# Altium footprint library PcbLib1.PcbLib: 18 footprints (part 1 of 2)
Each footprint in its own frame and in the unit in brackets; x right, y up, seen from the top. Pads: shape width x height; smd on the part's side, far side on the other; paste and mask are expansions set on the pad; w line width, h text height; cw(c..) or ccw(c..) is an arc to the next point about the centre after c.
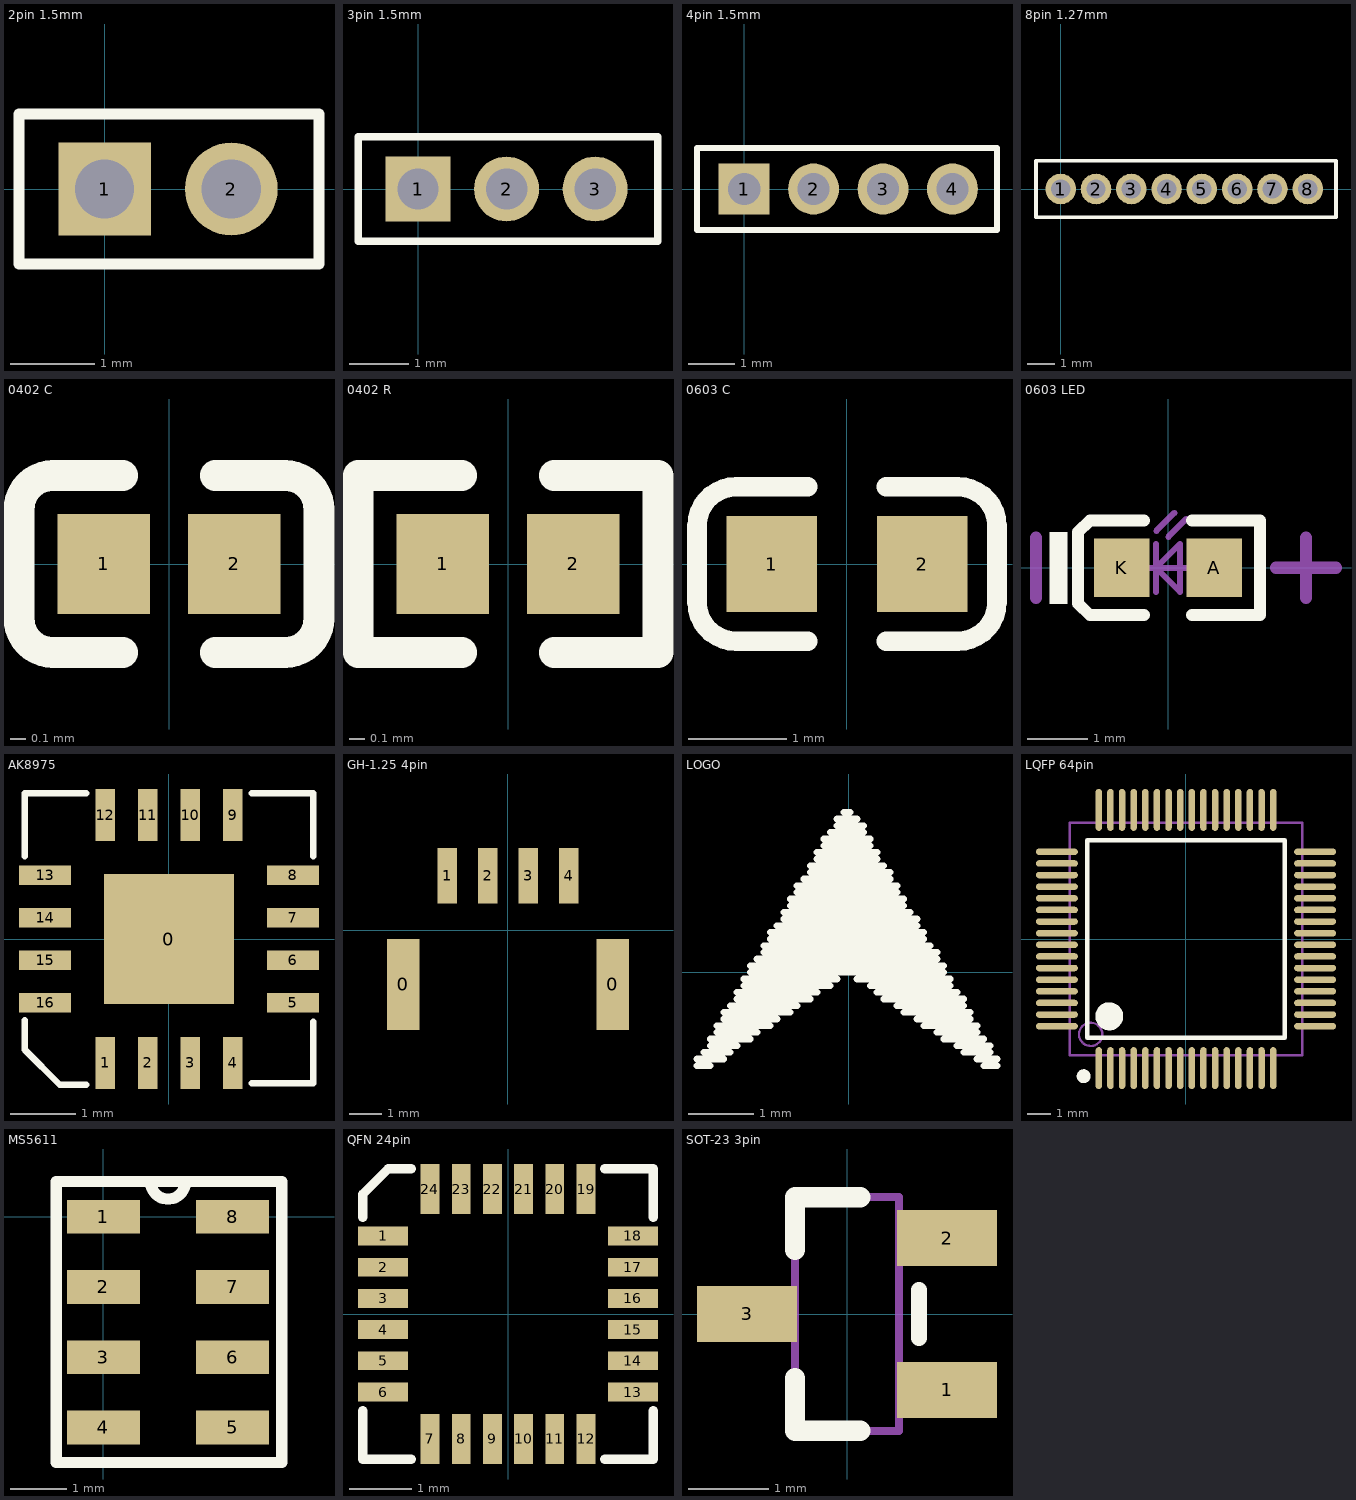
[diagram p0: the footprints below, top view; thin cyan lines are the x and y axes]

## 2pin 1.5mm [mm]
pads (2):
  rect 1.1x1.1 hole 0.7: 1(0,0)
  round 1.1 hole 0.7: 2(1.5,0)
Top Overlay:
  lines w0.127: -1.016,-0.889 -1.016,0.889 2.54,0.889 2.54,-0.889 -1.016,-0.889

## 3pin 1.5mm [mm]
pads (3):
  rect 1.1x1.1 hole 0.7: 1(0,0)
  round 1.1 hole 0.7: 2(1.5,0) 3(3,0)
Top Overlay:
  lines w0.127: -1.016,-0.889 4.064,-0.889 4.064,0.889 -1.016,0.889 -1.016,-0.889

## 4pin 1.5mm [mm]
pads (4):
  rect 1.1x1.1 hole 0.7: 1(0,0)
  round 1.1 hole 0.7: 2(1.5,0) 3(3,0) 4(4.5,0)
Top Overlay:
  lines w0.127: -1.016,-0.889 5.461,-0.889 5.461,0.889 -1.016,0.889 -1.016,-0.889

## 8pin 1.27mm [mm]
pads (8):
  round 1.1 hole 0.7: 1(0,0) 2(1.27,0) 3(2.54,0) 4(3.81,0) 5(5.08,0) 6(6.35,0) 7(7.62,0) 8(8.89,0)
Top Overlay:
  lines w0.127: -0.889,-1.016 -0.889,1.016 9.906,1.016 9.906,-1.016 -0.889,-1.016

## 0402 C [mm]
pads (2):
  rect 0.6x0.65 smd mask+0.051: 1(-0.425,0) 2(0.425,0)
Top Overlay:
  lines w0.2: -0.755,-0.575 cw(c-0.755,-0.355) -0.975,-0.355 -0.975,0.355 cw(c-0.755,0.355) -0.755,0.575 ; -0.75,-0.575 -0.3,-0.575 ; -0.75,0.575 -0.3,0.575 ; 0.3,-0.575 0.75,-0.575 ; 0.3,0.575 0.75,0.575 ; 0.755,-0.575 ccw(c0.755,-0.355) 0.975,-0.355 0.975,0.355 ccw(c0.755,0.355) 0.755,0.575
3D body "0402 SMD Capacitor.step": height 0.2, standoff 0, extent -0.483,-0.3 0.518,0.3

## 0402 R [mm]
pads (2):
  rect 0.6x0.65 smd mask+0.051: 1(-0.425,0) 2(0.425,0)
Top Overlay:
  lines w0.2: -0.3,-0.575 -0.975,-0.575 -0.975,0.575 -0.3,0.575 ; 0.3,-0.575 0.975,-0.575 0.975,0.575 0.3,0.575
3D body "User Library-RES_1005-0402.STEP": height 0.41, standoff 0, extent -0.575,-0.275 0.575,0.275

## 0603 C [mm]
pads (2):
  rect 0.93x0.98 smd: 1(-0.77,0) 2(0.77,0)
Top Overlay:
  lines w0.2: -0.4,-0.79 -1.135,-0.79 cw(c-1.135,-0.39) -1.535,-0.39 -1.535,0.39 cw(c-1.135,0.39) -1.135,0.79 -0.4,0.79 ; 0.4,-0.79 1.135,-0.79 ccw(c1.135,-0.39) 1.535,-0.39 1.535,0.39 ccw(c1.135,0.39) 1.135,0.79 0.4,0.79
3D body "User Library-0603 SMD Capacitor.STEP": height 0.3, standoff 0, extent -0.8,-0.4 0.8,0.4

## 0603 LED [mm]
pads (2):
  rect 0.93x0.98 smd: A(0.77,0) K(-0.77,0)
Top Overlay:
  rectangle: -1.975,-0.6 -1.675,0.6
  lines w0.2: -0.4,-0.79 -1.3,-0.79 -1.5,-0.597 -1.5,0.597 -1.3,0.79 -0.4,0.79 ; 0.4,-0.79 1.535,-0.79 1.535,0.79 0.4,0.79
Mechanical 13:
  lines w0.1: -0.4,0 0.4,0 ; -0.2,-0.4 -0.2,0.4 ; -0.195,0.617 0.105,0.917 ; 0.005,0.517 0.305,0.817 ; -0.2,0 0.2,0.4 0.2,-0.4 -0.2,0
Mechanical 15:
  lines w0.203: -2.2,-0.5 -2.2,0.5 ; 1.8,0 2.8,0 ; 2.3,-0.5 2.3,0.5
3D body "User Library-LED_0603_R.STEP": height 0.6, standoff 0, extent -0.8,-0.4 0.8,0.4

## 0603 R [mm]

## AK8975 [mm]
pads (17):
  rect 2x2 smd: 0(0,0)
  rect 0.3x0.8 smd: 1(-0.975,-1.9) 2(-0.325,-1.9) 3(0.325,-1.9) 4(0.975,-1.9) 9(0.975,1.9) 10(0.325,1.9) 11(-0.325,1.9) 12(-0.975,1.9)
  rect 0.8x0.3 smd: 5(1.9,-0.975) 6(1.9,-0.325) 7(1.9,0.325) 8(1.9,0.975) 13(-1.9,0.975) 14(-1.9,0.325) 15(-1.9,-0.325) 16(-1.9,-0.975)
Top Overlay:
  lines w0.1: -2.21,-1.245 -2.21,-1.702 -1.676,-2.235 -1.27,-2.235 ; -2.21,1.27 -2.21,2.235 -1.27,2.235 ; 1.27,-2.21 2.21,-2.21 2.21,-1.27 ; 1.27,2.235 2.21,2.235 2.21,1.27
3D body "ALSRobot-QFN16 4x4.STEP": height 0.92, standoff 0, extent -2,-2 2,2

## GH-1.25 4pin [mm]
pads (6):
  rect 1x2.8 smd: 0(-3.225,-1.675) 0(3.225,-1.675)
  rect 0.6x1.7 smd: 1(-1.875,1.675) 2(-0.625,1.675) 3(0.625,1.675) 4(1.875,1.675)
3D body "GH1.254P_stand.STEP": height 4.08, standoff -0.13, extent -4.125,-3.175 4.125,1.775

## LOGO [mm]
Top Overlay:
  lines w0.102: -2.311,-1.422 -2.108,-1.422 ; -2.311,-1.321 -1.905,-1.321 ; -2.21,-1.219 -1.803,-1.219 ; -2.108,-1.118 -1.702,-1.118 ; -2.108,-1.016 -1.499,-1.016 ; -2.007,-0.914 -1.397,-0.914 ; -2.007,-0.813 -1.194,-0.813 ; -1.905,-0.711 -1.092,-0.711 ; -1.905,-0.61 -0.889,-0.61 ; -1.803,-0.508 -0.787,-0.508 ; -1.702,-0.406 -0.584,-0.406 ; -1.702,-0.305 -0.483,-0.305 ; -1.6,-0.203 -0.279,-0.203 ; -1.6,-0.102 -0.178,-0.102 ; -1.499,0 1.448,0 ; -1.499,0.102 1.448,0.102 ; -1.397,0.203 1.346,0.203 ; -1.295,0.305 1.346,0.305 ; -1.295,0.406 1.245,0.406 ; -1.194,0.508 1.143,0.508 ; -1.194,0.61 1.143,0.61 ; -1.092,0.711 1.041,0.711 ; -0.991,0.813 1.041,0.813 ; -0.991,0.914 0.94,0.914 ; -0.889,1.016 0.838,1.016 ; -0.889,1.118 0.838,1.118 ; -0.787,1.219 0.737,1.219 ; -0.787,1.321 0.737,1.321 ; -0.686,1.422 0.635,1.422 ; -0.584,1.524 0.635,1.524 ; -0.584,1.626 0.533,1.626 ; -0.483,1.727 0.432,1.727 ; -0.483,1.829 0.432,1.829 ; -0.381,1.93 0.33,1.93 ; -0.381,2.032 0.33,2.032 ; -0.279,2.134 0.229,2.134 ; -0.178,2.235 0.229,2.235 ; -0.178,2.337 0.127,2.337 ; -0.076,2.438 0.025,2.438 ; 0.127,-0.102 1.549,-0.102 ; 0.33,-0.203 1.549,-0.203 ; 0.432,-0.305 1.651,-0.305 ; 0.533,-0.406 1.753,-0.406 ; 0.737,-0.508 1.753,-0.508 ; 0.838,-0.61 1.854,-0.61 ; 1.041,-0.711 1.854,-0.711 ; 1.143,-0.813 1.956,-0.813 ; 1.346,-0.914 1.956,-0.914 ; 1.448,-1.016 2.057,-1.016 ; 1.651,-1.118 2.159,-1.118 ; 1.753,-1.219 2.159,-1.219 ; 1.956,-1.321 2.261,-1.321 ; 2.057,-1.422 2.261,-1.422

## LQFP 64pin [mm]
pads (64):
  oval 0.28x1.8 smd mask+0.051: 1(-3.75,-5.55) 2(-3.25,-5.55) 3(-2.75,-5.55) 4(-2.25,-5.55) 5(-1.75,-5.55) 6(-1.25,-5.55) 7(-0.75,-5.55) 8(-0.25,-5.55) 9(0.25,-5.55) 10(0.75,-5.55) 11(1.25,-5.55) 12(1.75,-5.55) 13(2.25,-5.55) 14(2.75,-5.55) 15(3.25,-5.55) 16(3.75,-5.55) 33(3.75,5.55) 34(3.25,5.55) 35(2.75,5.55) 36(2.25,5.55) 37(1.75,5.55) 38(1.25,5.55) 39(0.75,5.55) 40(0.25,5.55) 41(-0.25,5.55) 42(-0.75,5.55) 43(-1.25,5.55) 44(-1.75,5.55) 45(-2.25,5.55) 46(-2.75,5.55) 47(-3.25,5.55) 48(-3.75,5.55)
  oval 1.8x0.28 smd mask+0.051: 17(5.55,-3.75) 18(5.55,-3.25) 19(5.55,-2.75) 20(5.55,-2.25) 21(5.55,-1.75) 22(5.55,-1.25) 23(5.55,-0.75) 24(5.55,-0.25) 25(5.55,0.25) 26(5.55,0.75) 27(5.55,1.25) 28(5.55,1.75) 29(5.55,2.25) 30(5.55,2.75) 31(5.55,3.25) 32(5.55,3.75) 49(-5.55,3.75) 50(-5.55,3.25) 51(-5.55,2.75) 52(-5.55,2.25) 53(-5.55,1.75) 54(-5.55,1.25) 55(-5.55,0.75) 56(-5.55,0.25) 57(-5.55,-0.25) 58(-5.55,-0.75) 59(-5.55,-1.25) 60(-5.55,-1.75) 61(-5.55,-2.25) 62(-5.55,-2.75) 63(-5.55,-3.25) 64(-5.55,-3.75)
Top Overlay:
  circle w0.6: c-3.3,-3.325 r0.3
  circle w0.3: c-4.4,-5.9 r0.15
  lines w0.2: -4.25,-4.25 -4.25,4.25 4.25,4.25 4.25,-4.25 -4.25,-4.25
Mechanical 13:
  circle w0.1: c-4.1,-4.1 r0.5
  lines w0.1: -5,-5 -5,5 5,5 5,-5 -5,-5

## MS5611 [mm]
pads (8):
  rect 1.3x0.6 smd: 1(0,0) 2(0,-1.25) 3(0,-2.5) 4(0,-3.75) 5(2.3,-3.75) 6(2.3,-2.5) 7(2.3,-1.25) 8(2.3,0)
Top Overlay:
  lines w0.2: -0.839,-4.375 -0.839,0.625 1.462,0.625 cw(c1.15,0.625) 0.838,0.625 3.174,0.625 3.174,-4.375 -0.839,-4.375

## QFN 24pin [mm]
pads (24):
  rect 0.8x0.3 smd: 1(-2,1.25) 2(-2,0.75) 3(-2,0.25) 4(-2,-0.25) 5(-2,-0.75) 6(-2,-1.25) 13(2,-1.25) 14(2,-0.75) 15(2,-0.25) 16(2,0.25) 17(2,0.75) 18(2,1.25)
  rect 0.3x0.8 smd: 7(-1.25,-2) 8(-0.75,-2) 9(-0.25,-2) 10(0.25,-2) 11(0.75,-2) 12(1.25,-2) 19(1.25,2) 20(0.75,2) 21(0.25,2) 22(-0.25,2) 23(-0.75,2) 24(-1.25,2)
Top Overlay:
  lines w0.15: -2.325,-1.55 -2.325,-2.325 -1.55,-2.325 ; -2.325,1.55 -2.325,1.917 -1.917,2.325 -1.55,2.325 ; 1.55,-2.325 2.325,-2.325 2.325,-1.55 ; 1.55,2.325 2.325,2.325 2.325,1.55
3D body "QFN24.step": height 0.9, standoff 0, extent -1.997,-2.002 2.007,2.002

## SOT-23 3pin [mm]
pads (3):
  rect 1.25x0.7 smd: 1(1.25,-0.95) 2(1.25,0.95) 3(-1.25,0)
Top Overlay:
  lines w0.2: 0.9,-0.3 0.9,0.3
  lines w0.254: -0.65,-0.8 -0.65,-1.46 0.165,-1.46 ; 0.165,1.46 -0.65,1.46 ; -0.65,0.8 -0.65,1.46 ; -0.65,0.8 -0.65,1.46 ; -0.65,0.8 -0.65,1.46
Mechanical 13:
  lines w0.1: -0.65,-1.46 -0.65,1.46 ; -0.65,-1.46 0.65,-1.46 ; -0.65,-1.46 0.65,-1.46 ; -0.65,-1.46 -0.65,1.46 ; -0.65,-1.46 0.65,-1.46 ; -0.65,-1.46 -0.65,1.46 ; -0.65,1.46 0.65,1.46 ; -0.65,1.46 0.65,1.46 ; -0.65,1.46 0.65,1.46 ; 0.65,-1.46 0.65,1.46 ; 0.65,-1.46 0.65,1.46 ; 0.65,-1.46 0.65,1.46
3D body "SOT-23.step": height 1.3, standoff 0, extent -1.5,-1.5 1.5,1.5